# Altium schematic symbol library Schematic Library.SchLib: 1 symbol
Pins are listed as number, name and electrical type; pins without a type are passive.

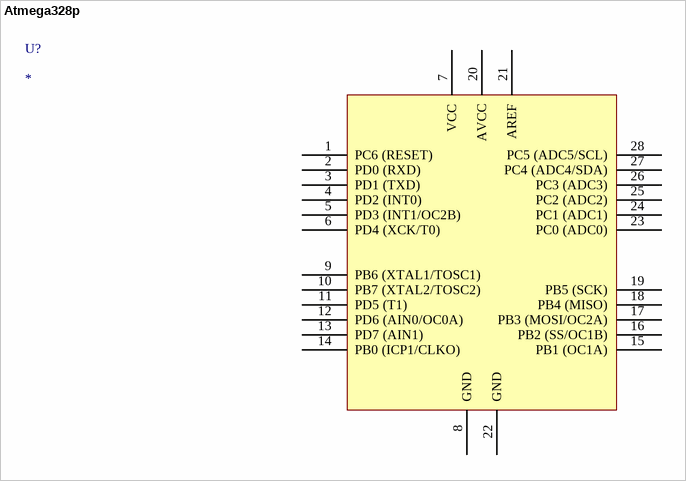
[diagram p0: symbol Atmega328p]

## Atmega328p
designator U?
pins: 1 PC6 (RESET), 2 PD0 (RXD), 3 PD1 (TXD), 4 PD2 (INT0), 5 PD3 (INT1/OC2B), 6 PD4 (XCK/T0), 7 VCC, 8 GND, 9 PB6 (XTAL1/TOSC1), 10 PB7 (XTAL2/TOSC2), 11 PD5 (T1), 12 PD6 (AIN0/OC0A), 13 PD7 (AIN1), 14 PB0 (ICP1/CLKO), 15 PB1 (OC1A), 16 PB2 (SS/OC1B), 17 PB3 (MOSI/OC2A), 18 PB4 (MISO), 19 PB5 (SCK), 20 AVCC, 21 AREF, 22 GND, 23 PC0 (ADC0), 24 PC1 (ADC1), 25 PC2 (ADC2), 26 PC3 (ADC3), 27 PC4 (ADC4/SDA), 28 PC5 (ADC5/SCL)